# Altium schematic symbol library UWRT_Schematic_Library_2020.SchLib: 766 symbols (part 8 of 8)
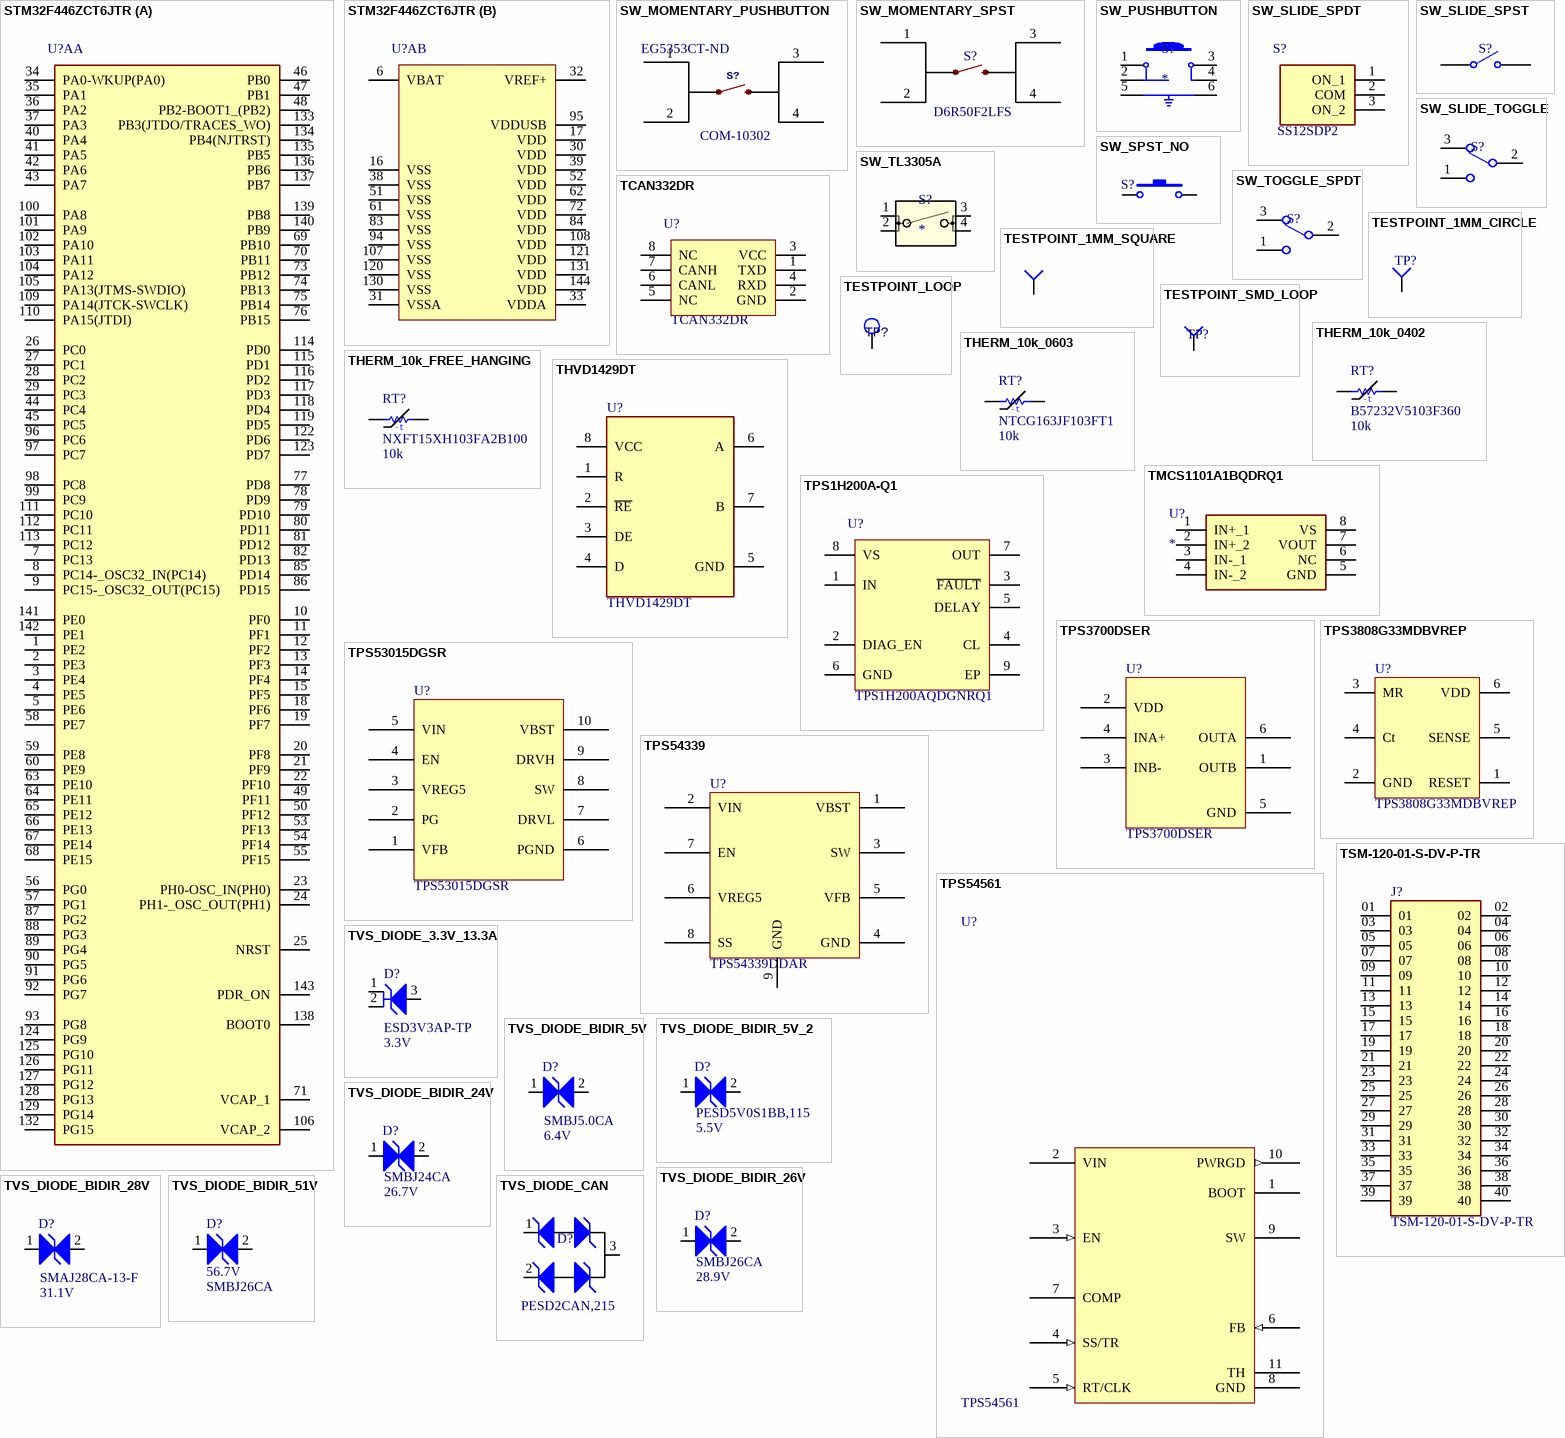
[diagram p32: symbols STM32F446ZCT6JTR to TVS_DIODE_CAN]

## SW_MOMENTARY_PUSHBUTTON
designator S?  Manufacturer Part Number 1: COM-10302  Supplier Part Number 2: EG5353CT-ND
TL3305A Series SPST 12 V 4.5 x 4.5 mm 260 gf Top Actuated SMT Tactile Switch; Manufacturer 1: SparkFun; Manufacturer: E-Switch; Manufacturer Part Number: TL3305AF260QG; Package/Footprint: TH; Mechanical Life: 200000Cycles; Illumination Type: Non-Illuminated; Operating Force: 260gf; Switch Travel: 0.2mm; Switch Function: Off-Mom; Actuator Type: Standard; Supplier 1: Digi-Key; Mounting Type: TH; Supplier Part Number 1: 1568-1332-ND; Verified: No; Supplier 2: Digi-Key; RoHS: Yes; Category: Tactile Switches; Stock 2: 79505; Pricing 2: 1=0.21000, 10=0.20500, 25=0.19440, 100=0.17600, 250=0.16048, 500=0.14918, 1000=0.12726 (USD); Mount: Surface Mount; Min Operating Temperature: -20°C; Max Operating Temperature: 70°C; Packaging: Tape and Reel; Termination: Gull Wing; Throw Configuration: SPST; Lead Free: Lead Free; ComponentLink1URL: http://www.farnell.com/datasheets/2554191.pdf?src-supplier=Farnell; ComponentLink1Description: http://www.farnell.com/datasheets/2554191.pdf?src-supplier=Farnell; ComponentLink2URL: http://spec_sheets.e-switch.com/specs/P010471.pdf?src-supplier=Mouser; ComponentLink2Description: http://spec_sheets.e-switch.com/specs/P010471.pdf?src-supplier=Mouser; ComponentLink3URL: http://spec_sheets.e-switch.com/specs/P010471.pdf?src-supplier=Digi-Key; ComponentLink3Description: http://spec_sheets.e-switch.com/specs/P010471.pdf?src-supplier=Digi-Key; ComponentLink4URL: http://www.farnell.com/datasheets/2554191.pdf?src-supplier=Newark; ComponentLink4Description: http://www.farnell.com/datasheets/2554191.pdf?src-supplier=Newark; ComponentLink5URL: http://www.farnell.com/datasheets/2554191.pdf?src-supplier=Element14; ComponentLink5Description: http://www.farnell.com/datasheets/2554191.pdf?src-supplier=Element14; ComponentLink6URL: http://spec_sheets.e-switch.com/specs/P010471.pdf?src-supplier=NAC+Semi; ComponentLink6Description: http://spec_sheets.e-switch.com/specs/P010471.pdf?src-supplier=NAC+Semi
footprint TACTILE_SWITCH_PTH_12MM
pins: 1, 2, 3, 4

## SW_MOMENTARY_SPST
designator S?  Manufacturer Part Number 1: D6R50F2LFS
SWITCH PUSH SPST-NO 0.1A 32V; Manufacturer 1: ITT C&K; Current Rating: 100mA; Throw Configuration: SPST; Operating Force: 2.5N; Actuator Type: Round, Button; Switch Function: Off-Mom; Electrical Life: 250000Cycles; Actuator Length: 7mm; Row Spacing: 5mm; Supplier 1: Digi-Key; Contact Plating: Silver; Number of Terminals: 4; Max Voltage Rating (DC): 32V; Voltage Rating (DC): 32V; Max Current Rating: 100mA; Orientation: Straight; Terminal Pitch: 5mm; Supplier Part Number 1: 401-1993-ND
footprint D6R
pins: 1, 2, 3, 4

## SW_PUSHBUTTON
designator S?
SMT 3.0 X 2.6 MM TACT SWITCH WIT; Manufacturer 1: Würth Elektronik; Manufacturer Part Number 1: 435151014824; Supplier 1: Digi-Key; Supplier Part Number 1: 732-435151014824CT-ND
footprint TACTILE_SWITCH_SMD
pins: 1, 2, 3, 4, 5, 6

## SW_SLIDE_SPDT
designator S?  Manufacturer Part Number 1: SS12SDP2
SWITCH SLIDE SPDT 100MA 30V; Manufacturer 1: NKK Switches; Switch Travel: 2mm; Switch Function: On-On; Voltage Rating (AC): 28V; Supplier 1: Digi-Key; Throw Configuration: SPDT; Orientation: Straight; Voltage Rating (DC): 30V; Max Voltage Rating (DC): 30V; Supplier Part Number 1: 360-2133-ND
footprint SS12SDP2
pins: 1 ON_1, 2 COM, 3 ON_2

## SW_SLIDE_SPST
designator S?
SWITCH SLIDE SPST 500mA (DC) 8.5A (AC) 125V; Manufacturer 1: CW Industries; Manufacturer Part Number 1: GF-123-0054; Supplier 1: Digi-Key; Supplier Part Number 1: CWI333-ND; Voltage Rating: 125V; Current Rating: 500mA
footprint GF1230054
pins: 1, 2

## SW_SLIDE_TOGGLE
designator S?
SWITCH SLIDE SPDT 200MA 30V; Manufacturer 1: E-Switch; Manufacturer Part Number 1: 100SP1T1B4M2QE; Package/Footprint: TH; Supplier 1: Digi-Key; Mounting Type: TH; Voltage Rating (DC): 30V; Throw Configuration: SPDT; Supplier Part Number 1: EG1903-ND
footprint SW_SLIDE_TOGGLE
pins: 1, 2, 3

## SW_SPST_NO
designator S?
SMT 3.0 X 2.6 MM TACT SWITCH WIT; Manufacturer Part Number 1: 435151014824; Manufacturer 1: Würth Elektronik; Mounting Type: SMD; Supplier 1: Digi-Key; Supplier Part Number 1: 732-435151014824CT-ND
footprint B3U-1000P (TACTILE SWITCH GREY)
pins: 1, 2

## SW_TL3305A
designator S?
TL3305A Series SPST 12 V 4.5 x 4.5 mm 260 gf Top Actuated SMT Tactile Switch; Manufacturer Part Number: TL3305AF260QG
footprint SW_TL3305AF260QG
pins: 1, 2, 3, 4

## SW_TOGGLE_SPDT
designator S?
SWITCH TOGGLE SPDT 5A 120V; Manufacturer 1: E-Switch; Manufacturer Part Number 1: 100SP1T1B4M2QE; Voltage Rating (DC): 28V; Package/Footprint: TH; Supplier 1: Digi-Key; Mounting Type: TH; Throw Configuration: SPDT; Supplier Part Number 1: EG2355-ND
footprint 100SP1T1B4M2QE
pins: 1, 2, 3

## TCAN332DR
designator U?  Manufacturer Part Number 1: TCAN332DR
IC CAN TRANSCEIVER; Manufacturer 1: Texas Instruments; Supplier 1: Digi-Key; Supplier Part Number 1: 296-43711-1-ND
pins: 1 TXD, 2 GND, 3 VCC, 4 RXD, 5 NC, 6 CANL, 7 CANH, 8 NC

## TESTPOINT_1MM_CIRCLE
designator TP?  (no BOM)
TESTPOINT 1MM CIRCLE
footprint TESTPOINT_CIRCLE_1MM
pins: 1 =value

## TESTPOINT_1MM_SQUARE
designator TP?  (no BOM)
TESTPOINT 1MM SQUARE
footprint TESTPOINT_SQUARE_1MM
pins: 1 =value

## TESTPOINT_LOOP
designator TP?
TESTPOINT THRUHOLE; Manufacturer 1: Keystone Electronics; Manufacturer Part Number 1: 5002; Package/Footprint: TH; Supplier Part Number 1: 36-5002-ND; Supplier 1: Digi-Key; Mounting Type: TH
footprint TESTPOINT_LOOP
pins: 1

## TESTPOINT_SMD_LOOP
designator TP?
TESTPOINT SMD LOOP; Manufacturer 1: Harwin; Manufacturer Part Number 1: S1751-46R; Supplier 1: Digi-Key; Mounting Type: SMD; Package/Footprint: SMD; Supplier Part Number 1: 952-1478-1-ND
footprint S1751-46R (SMD LOOP TESTPOINT)
pins: 1 =value

## THERM_10k_0402
designator RT?  Manufacturer Part Number: B57232V5103F360  Resistance: 10k
NTC Thermistor, 10000ohm, Surface Mount; Manufacturer: TDK EPCOS; Supplier 1: Digi-Key; Supplier Part Number 1: 495-7391-1-ND
pins: 1, 2
text: -t

## THERM_10k_0603
designator RT?  Manufacturer Part Number 1: NTCG163JF103FT1  Resistance: 10k
THERMISTOR NTC 10K 1% OHM 0603; Manufacturer 1: TDK; Supplier 1: Digi-Key; Supplier Part Number 1: 445-2554-1-ND
footprint RESC0603(1608)_N (Chip Resistor, Body 1.6x0.8mm, IPC Medium Density)
pins: 1, 2
text: -t

## THERM_10k_FREE_HANGING
designator RT?  Manufacturer Part Number 1: NXFT15XH103FA2B100  Resistance: 10k
NTC Thermistor, 10000ohm, Surface Mount; Manufacturer 1: Murata; Power Rating: 7.5mW; Max Power Dissipation: 100mW; Supplier 1: Digi-Key; Supplier Part Number 1: 490-5630-ND
footprint HDR1X2 - PTH Thermistor (Connector; Header; 2 Position)
pins: 1, 2
text: -t

## THVD1429DT
designator U?  Manufacturer Part Number 1: THVD1429DT
IC RS485 TRANSCEIVER HALF 1/1 8SOIC; Manufacturer 1: Texas Instruments; Package/Footprint: 8-SOIC; Verified: No; Supplier 1: Digi-Key; Supplier Part Number 1: 296-53046-1ND; Mounting Type: SMD
footprint 8-SOIC_M (SOIC, 8-Leads, Body 5x4mm, Pitch 1.27mm, IPC Low Density)
pins: 1 R "Receive data output", 2 ~{RE} "Receiver enable, active low (2-M Ohm internal pull up)", 3 DE "Driver enable, active high (2-M Ohm internal pull down)", 4 D "Driver data input", 5 GND (power) "Device ground", 6 A "Bus I/O port A (complimentary to B)", 7 B "Bus I/O port A (complimentary to A)", 8 VCC "3.3V to 5V supply"

## TMCS1101A1BQDRQ1
designator U?
Hall-Effect Current Sensor; Manufacturer_Name: Texas Instruments; Manufacturer_Part_Number: TMCS1101A1BQDRQ1; Datasheet Link: https://www.ti.com/lit/ds/symlink/tmcs1101-q1.pdf?HQS=dis-dk-null-digikeymode-dsf-pf-null-wwe&ts=1636812075055&ref_url=https%253A%252F%252Fwww.digikey.be%252F; Height: 1.75mm; Mouser Part Number: 595-TMCS1101A3BQDRQ1; Mouser Price/Stock: https://www.mouser.co.uk/ProductDetail/Texas-Instruments/TMCS1101A3BQDRQ1?qs=QNEnbhJQKvb740%252BlrUS3Og%3D%3D; Arrow Part Number: TMCS1101A3BQDRQ1; Arrow Price/Stock: https://www.arrow.com/en/products/tmcs1101a3bqdrq1/texas-instruments?region=nac
footprint SOIC127P600X175-8N
pins: 1 IN+_1, 2 IN+_2, 3 IN-_1, 4 IN-_2, 5 GND, 6 NC, 7 VOUT, 8 VS

## TPS1H200A-Q1
designator U?  Manufacturer Part Number 1: TPS1H200AQDGNRQ1
IC PWR DRIVER N-CHAN 1:1 8MSOP; Manufacturer 1: Texas Instruments; Package/Footprint: 8-TSSOP; Rds On (Typ): 200mOhm; Supplier 1: Digi-Key; Supplier Part Number 1: 296-50416-1-ND; Mounting Type: SMD; Verified: No
footprint DGN0008G (8-TSSOP, 8-MSOP (0.118", 3.00mm Width) Exposed Pad)
pins: 1 IN, 2 DIAG_EN, 3 ~{FAULT}, 4 CL, 5 DELAY, 6 GND, 7 OUT, 8 VS, 9 EP

## TPS3700DSER
designator U?  Manufacturer Part Number 1: TPS3700DSER
IC COMP WINDOW W/REF 6WSON; Manufacturer 1: Texas Instruments; Supplier 1: Digi-Key; Supplier Part Number 1: 296-40742-1-ND
footprint DSE0006A
pins: 1 OUTB, 2 VDD, 3 INB-, 4 INA+, 5 GND, 6 OUTA

## TPS3808G33MDBVREP
designator U?  Manufacturer Part Number 1: TPS3808G33MDBVREP
IC SUPERVISOR 1 CHANNEL SOT23-6; Manufacturer 1: Texas Instruments; Supplier 1: Digi-Key; Supplier Part Number 1: 296-23569-1-ND
footprint TPS3808G33MDBVREP
pins: 1 RESET, 2 GND, 3 MR, 4 Ct, 5 SENSE, 6 VDD

## TPS53015DGSR
designator U?  Manufacturer Part Number 1: TPS53015DGSR
IC REG CTRLR BUCK 10MSOP; Manufacturer 1: Texas Instruments; Supplier 1: Digi-Key; Supplier Part Number 1: 296-40777-1-ND
pins: 1 VFB, 2 PG, 3 VREG5, 4 EN, 5 VIN, 6 PGND, 7 DRVL, 8 SW, 9 DRVH, 10 VBST

## TPS54339
designator U?  Manufacturer Part Number 1: TPS54339DDAR
IC REG BUCK ADJUSTABLE 3A 8SOPWR; Manufacturer 1: Texas Instruments; Input Voltage (Min): 4.5V; Input Voltage (Max): 23V; Output Voltage (Min/Fixed): 0.76V; Output Voltage (Max): 7V; Switching Frequency: 600kHz; Supplier 1: Digi-Key; Supplier Part Number 1: 296-35686-1-ND; Output Current: 3A; Package: 8-PowerSOIC
footprint VREG_LM5017MR/NOPB
pins: 1 VBST, 2 VIN, 3 SW, 4 GND, 5 VFB, 6 VREG5, 7 EN, 8 SS, 9 GND

## TPS54561
designator U?
Buck Switching Regulator IC Positive Adjustable 0.8V 1 Output 5A 10-WDFN Exposed Pad; Manufacturer 1: Texas Instruments; Manufacturer Part Number 1: TPS54561DPRR; Supplier 1: Digi-Key; Supplier Part Number 1: 296-40803-1-ND; Mounting Type: SMD; Package/Footprint: 10-WDFN Exposed Pad
footprint BUCK_TPS54561DPRR (Buck Switching Regulator IC Positive Adjustable 0.8V 1 Output 5A 10-WDFN Exposed Pad)
pins: 1 BOOT (power), 2 VIN (power), 3 EN (in), 4 SS/TR (in), 5 RT/CLK (in), 6 FB (in), 7 COMP (power), 8 GND (power), 9 SW (power), 10 PWRGD (out), 11 TH (power)

## TSM-120-01-S-DV-P-TR
designator J?  Manufacturer Part Number 1: TSM-120-01-S-DV-P-TR
CONN HEADER SMD 40POS 2.54MM; Manufacturer 1: Samtec Inc.; Supplier 1: Digi-Key; Supplier Part Number 1: SAM14896CT-ND
footprint SAMTEC_TSM-120-01-S-DV-P-TR
pins: 01, 02, 03, 04, 05, 06, 07, 08, 09, 10, 11, 12, 13, 14, 15, 16, 17, 18, 19, 20, 21, 22, 23, 24, 25, 26, 27, 28, 29, 30, 31, 32, 33, 34, 35, 36, 37, 38, 39, 40

## TVS_DIODE_3.3V_13.3A
designator D?  Voltage - Reverse Standoff (Typ): 3.3V  Manufacturer Part Number 1: ESD3V3AP-TP
TVS DIODE 3.3VWM 7.5VC SOT23; Manufacturer 1: Micro Commercial Co; Package/Footprint: SOT-23; Voltage - Breakdown (Min): 5V; Voltage - Clamping (Max) @ Ipp: 7.5V; Mounting Type: SMD; Supplier 1: Digi-Key; Supplier Part Number 1: ESD3V3AP-TPMSCT-ND
footprint ESD3V3AP-TP (TVS DIODE 3.3VWM 7.5VC SOT23)
pins: 1, 2, 3 (power)

## TVS_DIODE_BIDIR_5V
designator D?  Voltage - Breakdown (Min): 6.4V  Manufacturer Part Number 1: SMBJ5.0CA
TVS DIODE 5V 9.2V SMB; Manufacturer 1: Littelfuse; Package/Footprint: SMB; Supplier Part Number 1: SMBJ5.0CALFCT-ND; Supplier 1: Digi-Key; Mounting Type: SMD; Voltage - Reverse Standoff (Typ): 5V; Voltage - Clamping (Max) @ Ipp: 9.2V; Verified: No; LCSC Part #: *
footprint TVS_DIODE_BIDIR_SMB (DO-214AA, SMB)
pins: 1, 2

## TVS_DIODE_BIDIR_5V_2
designator D?  Voltage - Breakdown (Min): 5.5V  Manufacturer Part Number 1: PESD5V0S1BB,115
TVS DIODE 5V 14V SOD-523; Manufacturer 1: Nexperia; Supplier 1: Digi-Key; Supplier Part Number 1: 1727-3838-1-ND; Voltage - Reverse Standoff (Typ): 5V; Mounting Type: SMD; Package/Footprint: SOD-523; Verified: No
footprint SOD523
pins: 1, 2

## TVS_DIODE_BIDIR_24V
designator D?  Voltage - Breakdown (Min): 26.7V  Manufacturer Part Number 1: SMBJ24CA
TVS DIODE 24V 38.9V SMB; Manufacturer 1: Littelfuse; Package/Footprint: SMB; Supplier Part Number 1: SMBJ24CALFCT-ND; Supplier 1: Digi-Key; Mounting Type: SMD; Voltage - Clamping (Max) @ Ipp: 38.9V; Voltage - Reverse Standoff (Typ): 24V
footprint TVS_DIODE_BIDIR_SMB (DO-214AA, SMB)
pins: 1, 2

## TVS_DIODE_BIDIR_26V
designator D?  Voltage - Breakdown (Min): 28.9V  Manufacturer Part Number 1: SMBJ26CA
TVS DIODE 26V 42.1V SMB; Manufacturer 1: Littelfuse; Package/Footprint: SMB; Supplier Part Number 1: SMBJ26CALFCT-ND; Supplier 1: Digi-Key; Mounting Type: SMD; Voltage - Clamping (Max) @ Ipp: 42.1V; LCSC Part #: C8835; Voltage - Reverse Standoff (Typ): 26V
footprint TVS_DIODE_BIDIR_SMB (DO-214AA, SMB)
pins: 1, 2

## TVS_DIODE_BIDIR_28V
designator D?  Voltage - Breakdown (Min): 31.1V  Manufacturer Part Number 1: SMAJ28CA-13-F
TVS DIODE 28V 45.4V SMA; Manufacturer 1: Diodes Incorporated; Voltage - Clamping (Max) @ Ipp: 45.4V; Package/Footprint: SMA; Supplier Part Number 1: SMAJ28CA-FDICT-ND; Supplier 1: Digi-Key; Verified: No
footprint DO-214AC (SMA)
pins: 1, 2

## TVS_DIODE_BIDIR_51V
designator D?  Voltage - Breakdown (Min): 56.7V  Manufacturer Part Number 1: SMBJ26CA
TVS DIODE 51VWM 82.4VC DO214AA; Manufacturer 1: Littelfuse; Package/Footprint: SMB; Voltage - Clamping (Max) @ Ipp: 82.4V; Voltage - Reverse Standoff (Typ): 51V; Mounting Type: SMD; Supplier 1: Digi-Key; Supplier Part Number 1: SMBJ51CALFCT-ND
footprint TVS_DIODE_BIDIR_SMB (DO-214AA, SMB)
pins: 1, 2

## TVS_DIODE_CAN
designator D?  Manufacturer Part Number 1: PESD2CAN,215
TVS DIODE 24V 41V SOT323-3; Manufacturer 1: Nexperia USA Inc.; Voltage - Breakdown (Min): 26.2V; Package/Footprint: SOT323-3; Supplier Part Number 1: 1727-3891-1-ND; Supplier 1: Digi-Key; Mounting Type: SMD; Verified: Yes; Voltage - Reverse Standoff (Typ): 24V; Voltage - Clamping (Max) @ Ipp: 41V
footprint TVS_DIODE_CAN (SOT23, 3-Leads, Body 2.95x2.80mm, Pitch 0.95mm, IPC Low Density)
pins: 1, 2, 3

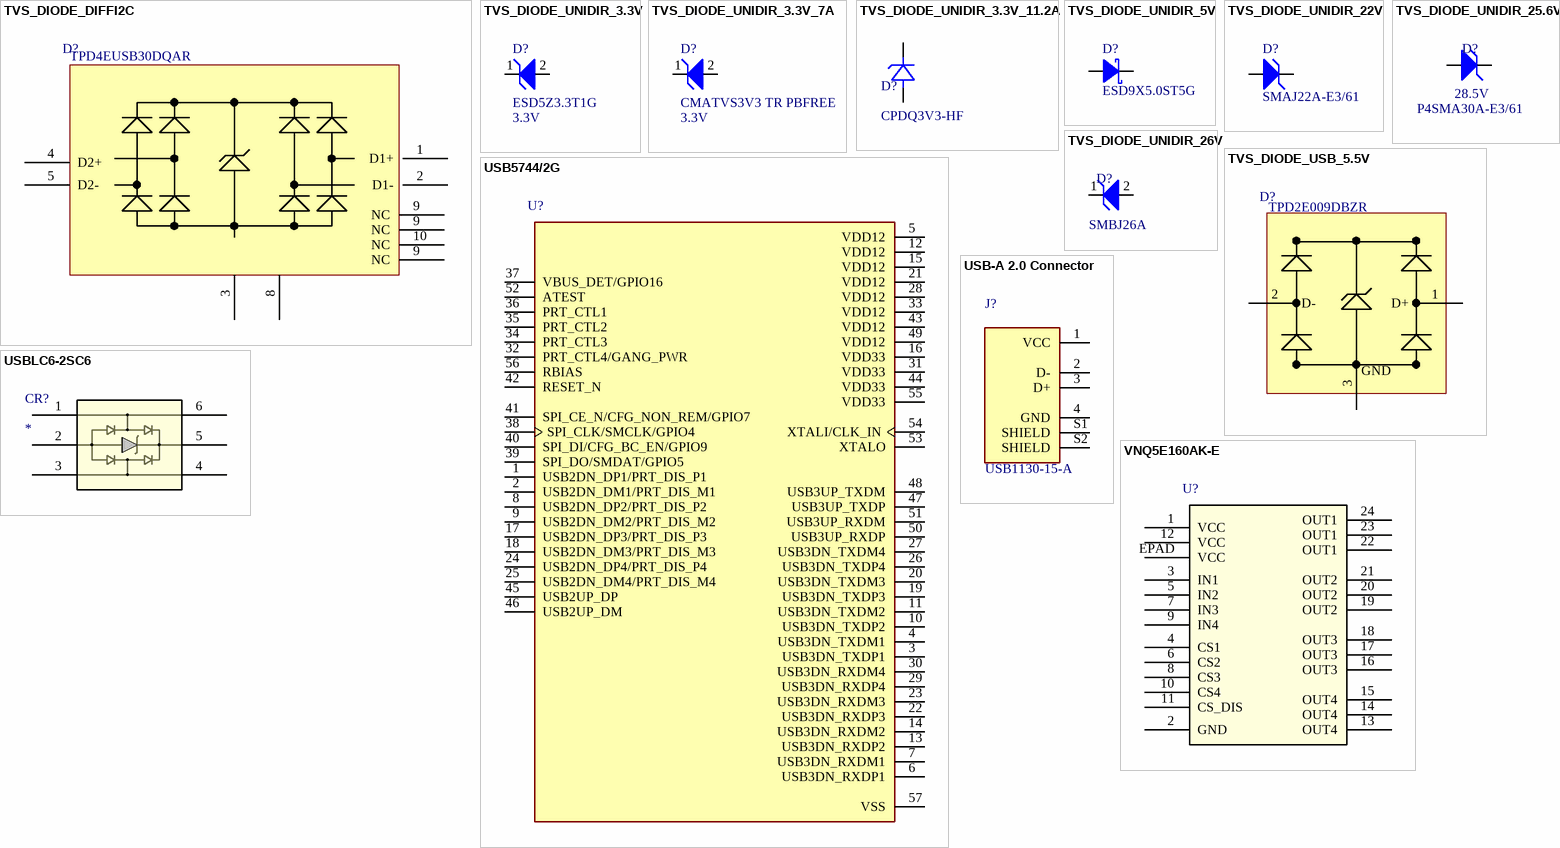
[diagram p25: symbols TVS_DIODE_DIFFI2C to VNQ5E160AK-E]

## TVS_DIODE_DIFFI2C
designator D?  Manufacturer Part Number 1: TPD4EUSB30DQAR
TVS DIODE 5.5V 8V 10SON; Manufacturer 1: Texas Instruments; Package/Footprint: 10-USON; Voltage - Breakdown (Min): 7V; Supplier 1: Digi-Key; Mounting Type: SMD; Supplier Part Number 1: 296-28063-1-ND; Verified: No; Voltage - Reverse Standoff (Typ): 5.5V; Voltage - Clamping (Max) @ Ipp: 8V
footprint DQA10
pins: 1 D1+, 2 D1-, 3 GND, 4 D2+, 5 D2-, 8 GND, 9 NC, 9 NC, 9 NC, 10 NC

## TVS_DIODE_UNIDIR_3.3V
designator D?  Voltage - Reverse Standoff (Typ): 3.3V  Manufacturer Part Number 1: ESD5Z3.3T1G
TVS DIODE 3.3V 14.1V SOD523; Manufacturer 1: ON Semiconductor; Package/Footprint: SOD-523; Voltage - Breakdown (Min): 5V; Supplier 1: Digi-Key; Mounting Type: SMD; Supplier Part Number 1: ESD5Z3.3T1GOSCT-ND; LCSC Part #: C61148; Voltage - Clamping (Max) @ Ipp: 14.1V
pins: 1, 2

## TVS_DIODE_UNIDIR_3.3V_7A
designator D?  Voltage - Reverse Standoff (Typ): 3.3V  Manufacturer Part Number 1: CMATVS3V3 TR PBFREE
TVS DIODE 3.3VWM 11VC SOD923; Manufacturer 1: Central Semiconductor Corp; Package/Footprint: SOD-923; Voltage - Breakdown (Min): 5V; Voltage - Clamping (Max) @ Ipp: 11V; Mounting Type: SMD; Supplier 1: Digi-Key; Supplier Part Number 1: 1514-CMATVS3V3TRPBFREECT-ND
footprint sod-923
pins: 1, 2

## TVS_DIODE_UNIDIR_3.3V_11.2A
designator D?, comment CPDQ3V3-HF
TVS DIODE 3.3 VWM 14.1VC SODS923; Mfr_Name: Comchip; Type: DEV; Copyright: Copyright (C) 2021 Ultra Librarian. All rights reserved.; Manufacturer_Part_Number: CPDQ3V3-HF; RefDes: RefDes; Supplier 1: Digi-Key; Supplier Part Number 1: 641-1476-1-ND
footprint SOD-923
pins: 1, 2

## TVS_DIODE_UNIDIR_5V
designator D?  Manufacturer Part Number 1: ESD9X5.0ST5G
TVS DIODE 5VWM 12.3VC SOD923; Manufacturer 1: ON Semiconductor; Min Breakdown Voltage: 6.2V; Clamping Voltage-Max: 12.3V; Supplier 1: Digi-Key; Supplier Part Number 1: ESD9X5.0ST5GOSCT-ND
footprint SOD-923
pins: 1 Anode, 2 Cathode

## TVS_DIODE_UNIDIR_22V
designator D?  Manufacturer Part Number 1: SMAJ22A-E3/61
TVS DIODE 22V 35.5VC SMA; Manufacturer 1: Vishay Semiconductors; Voltage - Breakdown (Min): 24.4V; Voltage - Clamping (Max) @ Ipp: 35.5V; Supplier 1: Digi-Key; Supplier Part Number 1: SMAJ22A-E3/61GICT-ND; Voltage - Reverse Standoff (Typ): 22V; Mounting Type: SMD; Package/Footprint: SMA; Verified: No
footprint DO-214AC_UNI
pins: 1, 2

## TVS_DIODE_UNIDIR_25.6V
designator D?  Voltage - Breakdown (Min): 28.5V  Manufacturer Part Number 1: P4SMA30A-E3/61
TVS DIODE 25.6V 41.4V SMA; Manufacturer 1: Vishay Semiconductors; Supplier 1: Digi-Key; Mounting Type: SMD; Package/Footprint: SMA; Voltage - Clamping (Max) @ Ipp: 41.4V; Voltage - Reverse Standoff (Typ): 25.6V; Supplier Part Number 1: P4SMA30A-E3/61GICT-ND; Verified: No
footprint DO-214AC_UNI
pins: 1, 2

## TVS_DIODE_UNIDIR_26V
designator D?  Manufacturer Part Number 1: SMBJ26A
TVS DIODE 26V 42.1V SMB; Manufacturer 1: Littelfuse; Package/Footprint: SMB; Supplier Part Number 1: SMBJ26ALFCT-ND; Supplier 1: Digi-Key; Mounting Type: SMD; Verified: No
footprint TVS_DIODE_UNIDIRECTIONAL_SMB (SMBJ26A)
pins: 1 Cathode, 2 Anode

## TVS_DIODE_USB_5.5V
designator D?  Manufacturer Part Number 1: TPD2E009DBZR
TVS DIODE 5.5V 8V SOT23-3; Manufacturer 1: Texas Instruments; Supplier 1: Digi-Key; Verified: No; Package: SOT-23-3; Mounting Type: SMD; Supplier Part Number 1: 296-24657-1-ND
footprint SOT23-3 (SOT23, 3-Leads, Body 2.90x2.30mm, Pitch 0.95mm, IPC Medium Density)
pins: 1 D+, 2 D-, 3 GND

## USB5744/2G
designator U?
IC HUB CTLR USB 56VQFN; Manufacturer 1: Microchip Technology; Manufacturer Part Number 1: USB5744/2G; Standards: USB 3.1; Supply Voltage: 1.2V, 3.3V; Supplier 1: Digi-Key; Supplier Part Number 1: USB5744/2G-ND; Package: 56-VQFN (7x7)
footprint QFN40P700X700X100-57N
pins: 1 USB2DN_DP1/PRT_DIS_P1, 2 USB2DN_DM1/PRT_DIS_M1, 3 USB3DN_TXDP1, 4 USB3DN_TXDM1, 5 VDD12, 6 USB3DN_RXDP1, 7 USB3DN_RXDM1, 8 USB2DN_DP2/PRT_DIS_P2, 9 USB2DN_DM2/PRT_DIS_M2, 10 USB3DN_TXDP2, 11 USB3DN_TXDM2, 12 VDD12, 13 USB3DN_RXDP2, 14 USB3DN_RXDM2, 15 VDD12, 16 VDD33, 17 USB2DN_DP3/PRT_DIS_P3, 18 USB2DN_DM3/PRT_DIS_M3, 19 USB3DN_TXDP3, 20 USB3DN_TXDM3, 21 VDD12, 22 USB3DN_RXDP3, 23 USB3DN_RXDM3, 24 USB2DN_DP4/PRT_DIS_P4, 25 USB2DN_DM4/PRT_DIS_M4, 26 USB3DN_TXDP4, 27 USB3DN_TXDM4, 28 VDD12, 29 USB3DN_RXDP4, 30 USB3DN_RXDM4, 31 VDD33, 32 PRT_CTL4/GANG_PWR, 33 VDD12, 34 PRT_CTL3, 35 PRT_CTL2, 36 PRT_CTL1, 37 VBUS_DET/GPIO16, 38 SPI_CLK/SMCLK/GPIO4, 39 SPI_DO/SMDAT/GPIO5, 40 SPI_DI/CFG_BC_EN/GPIO9, 41 SPI_CE_N/CFG_NON_REM/GPIO7, 42 RESET_N, 43 VDD12, 44 VDD33, 45 USB2UP_DP, 46 USB2UP_DM, 47 USB3UP_TXDP, 48 USB3UP_TXDM, 49 VDD12, 50 USB3UP_RXDP, 51 USB3UP_RXDM, 52 ATEST, 53 XTALO, 54 XTALI/CLK_IN, 55 VDD33, 56 RBIAS, 57 VSS

## USB-A 2.0 Connector
designator J?  Manufacturer Part Number 1: USB1130-15-A
USB-A (USB TYPE-A) USB 2.0 Receptacle Connector 4 Position Through Hole, Right Angle; Manufacturer 1: GCT; Supplier 1: Digi-Key; Supplier Part Number 1: 2073-USB1130-15-ACT-ND
footprint USB-A 2.0 Connector - 3d ver
pins: 1 VCC, 2 D-, 3 D+, 4 GND, S1 SHIELD, S2 SHIELD

## USBLC6-2SC6
designator CR?
17V Clamp 5A (8/20µs) Ipp Tvs Diode Surface Mount SOT-23-6; Mfr_Name: STMicroelectronics; RefDes: RefDes; Type: Type; Supplier 1: Mouser; Supplier Part Number 1: 511-USBLC6-2SC6
footprint SOT23-6L_STM
footprint SOT23-6L_STM
pins: 1, 2, 3, 4, 5, 6

## VNQ5E160AK-E
designator U?
IC PWR DRVR N-CHAN 1:1 PWRSSO24; Manufacturer 1: STMicroelectronics; Manufacturer Part Number 1: VNQ5E160AK-E; Number of Outputs: 4; On-State Resistance: 160mR; Max Output Current: 10A; Output Current per Channel: 7A; Output Configuration: High Side; Load Voltage: 4.5V ~ 28V; Rds On (Typ): 160mOhm (Max); Supplier 1: Digi-Key; Category: Hot Swap Controllers; Mounting Type: SM; Number of Pins: 24; Min Operating Temperature: -40°C; Max Operating Temperature: 150°C; Series: VIPower™; Lead Free: Lead Free; ComponentLink1URL: https://datasheet.ciiva.com/1956/cd00163285-1956669.pdf?src-supplier=Digi-Key; ComponentLink1Description: https://datasheet.ciiva.com/1956/cd00163285-1956669.pdf?src-supplier=Digi-Key; Supplier Part Number 1: 497-19256-ND; Verified: No
footprint PowerSSO-24_STM (Power Switch/Driver 1:1 N-Channel 13.5A PowerSSO-24)
pins: 1 VCC (power), 2 GND (power), 3 IN1, 4 CS1, 5 IN2, 6 CS2, 7 IN3, 8 CS3, 9 IN4, 10 CS4, 11 CS_DIS, 12 VCC (power), 13 OUT4, 14 OUT4, 15 OUT4, 16 OUT3, 17 OUT3, 18 OUT3, 19 OUT2, 20 OUT2, 21 OUT2, 22 OUT1, 23 OUT1, 24 OUT1, EPAD VCC (power)